# Altium footprint library RLC.PcbLib: 144 footprints (part 8 of 9)
Each footprint in its own frame and in the unit in brackets; x right, y up, seen from the top. Pads: shape width x height; smd on the part's side, far side on the other; paste and mask are expansions set on the pad; w line width, h text height; cw(c..) or ccw(c..) is an arc to the next point about the centre after c.
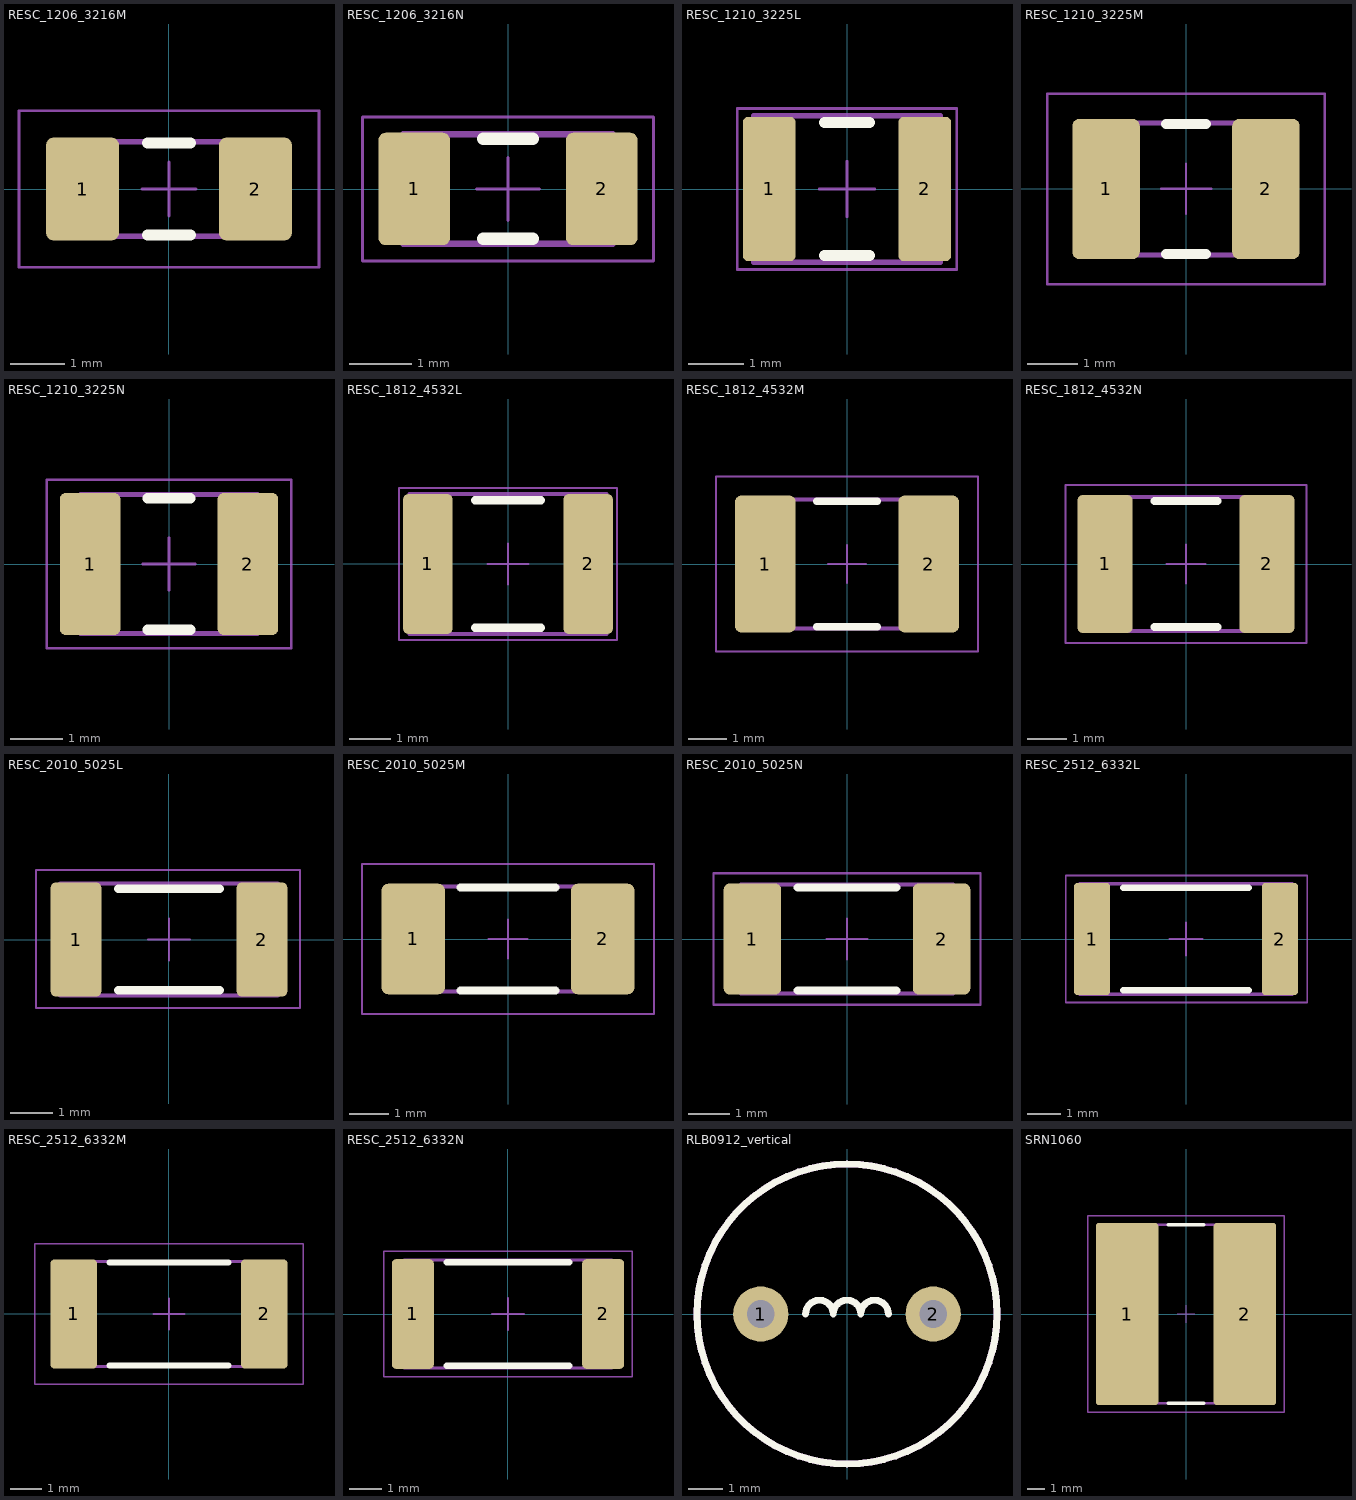
[diagram p7: the footprints below, top view; thin cyan lines are the x and y axes]

## RESC_1206_3216M [mm] "Chip Resistor, Body 3.2x1.6mm, IPC Low Density"
height 0.71
pads (2):
  rrect20% 1.35x1.9 smd: 1(-1.6,0) 2(1.6,0)
Top Overlay:
  lines w0.2: -0.4,-0.85 0.4,-0.85 ; -0.4,0.85 0.4,0.85
Top Designator:
  text ".Designator" at -2.899,1.5 h0.6
Top Assembly:
  lines w0.1: -1.675,-0.875 -1.675,0.875 1.675,0.875 1.675,-0.875 -1.675,-0.875
Top Courtyard:
  lines w0.05: -0.5,0 0.5,0 ; 0,-0.5 0,0.5 ; -2.775,-1.45 -2.775,1.45 2.775,1.45 2.775,-1.45 -2.775,-1.45
3D body "Resistor_1206_Text.step": height 0.62, standoff 0.01, extent -1.591,-0.788 1.609,0.812

## RESC_1206_3216N [mm] "Chip Resistor, Body 3.2x1.6mm, IPC Medium Density"
height 0.71
pads (2):
  rrect20% 1.15x1.8 smd: 1(-1.5,0) 2(1.5,0)
Top Overlay:
  lines w0.2: -0.4,-0.8 0.4,-0.8 ; -0.4,0.8 0.4,0.8
Top Designator:
  text ".Designator" at -2.899,1.5 h0.6
Top Assembly:
  lines w0.1: -1.675,-0.875 -1.675,0.875 1.675,0.875 1.675,-0.875 -1.675,-0.875
Top Courtyard:
  lines w0.05: -0.5,0 0.5,0 ; 0,-0.5 0,0.5 ; -2.325,-1.15 -2.325,1.15 2.325,1.15 2.325,-1.15 -2.325,-1.15
3D body "Resistor_1206_Text.step": height 0.62, standoff 0.01, extent -1.6,-0.8 1.6,0.8

## RESC_1210_3225L [mm] "Chip Resistor, Body 3.2x2.5mm, IPC High Density"
height 0.71
pads (2):
  rrect20% 0.95x2.6 smd: 1(-1.4,0) 2(1.4,0)
Top Overlay:
  lines w0.2: -0.4,-1.2 0.4,-1.2 ; -0.4,1.2 0.4,1.2
Top Designator:
  text ".Designator" at -2.999,1.8 h0.6
Top Assembly:
  lines w0.1: -1.675,-1.32 -1.675,1.32 1.675,1.32 1.675,-1.32 -1.675,-1.32
Top Courtyard:
  lines w0.05: -0.5,0 0.5,0 ; 0,-0.5 0,0.5 ; -1.975,-1.45 -1.975,1.45 1.975,1.45 1.975,-1.45 -1.975,-1.45
3D body "Resistor_1210_Text.step": height 0.62, standoff 0.01, extent -1.6,-1.25 1.6,1.25

## RESC_1210_3225M [mm] "Chip Resistor, Body 3.2x2.5mm, IPC Low Density"
height 0.71
pads (2):
  rrect20% 1.35x2.8 smd: 1(-1.6,0) 2(1.6,0)
Top Overlay:
  lines w0.2: -0.4,-1.3 0.4,-1.3 ; -0.4,1.3 0.4,1.3
Top Designator:
  text ".Designator" at -2.999,1.8 h0.6
Top Assembly:
  lines w0.1: -1.675,-1.32 -1.675,1.32 1.675,1.32 1.675,-1.32 -1.675,-1.32
Top Courtyard:
  lines w0.05: -0.5,0 0.5,0 ; 0,-0.5 0,0.5 ; -2.775,-1.9 -2.775,1.9 2.775,1.9 2.775,-1.9 -2.775,-1.9
3D body "Resistor_1210_Text.step": height 0.62, standoff 0.01, extent -1.6,-1.25 1.6,1.25

## RESC_1210_3225N [mm] "Chip Resistor, Body 3.2x2.5mm, IPC Medium Density"
height 0.71
pads (2):
  rrect20% 1.15x2.7 smd: 1(-1.5,0) 2(1.5,0)
Top Overlay:
  lines w0.2: -0.4,-1.25 0.4,-1.25 ; -0.4,1.25 0.4,1.25
Top Designator:
  text ".Designator" at -2.999,1.8 h0.6
Top Assembly:
  lines w0.1: -1.675,-1.32 -1.675,1.32 1.675,1.32 1.675,-1.32 -1.675,-1.32
Top Courtyard:
  lines w0.05: -0.5,0 0.5,0 ; 0,-0.5 0,0.5 ; -2.325,-1.6 -2.325,1.6 2.325,1.6 2.325,-1.6 -2.325,-1.6
3D body "Resistor_1210_Text.step": height 0.62, standoff 0.01, extent -1.592,-1.26 1.608,1.24

## RESC_1812_4532L [mm] "Chip Resistor, Body 4.5x3.2mm, IPC High Density"
height 0.71
pads (2):
  rrect20% 1.2x3.4 smd: 1(-1.95,0) 2(1.95,0)
Top Overlay:
  lines w0.2: -0.8,-1.55 0.8,-1.55 ; -0.8,1.55 0.8,1.55
Top Designator:
  text ".Designator" at -2.999,2.2 h0.6
Top Assembly:
  lines w0.1: -2.4,-1.7 2.4,-1.7 2.4,1.7 -2.4,1.7 -2.4,-1.7
Top Courtyard:
  lines w0.05: -0.5,0 0.5,0 ; 0,-0.5 0,0.5 ; -2.65,-1.85 2.65,-1.85 2.65,1.85 -2.65,1.85 -2.65,-1.85
3D body "rsmd-1812_l4-5_w3-2_h0-6.stp": height 0.6, standoff 0, extent -2.25,-1.6 2.25,1.6

## RESC_1812_4532M [mm] "Chip Resistor, Body 4.5x3.2mm, IPC Low Density"
height 0.71
pads (2):
  rrect20% 1.6x3.6 smd: 1(-2.15,0) 2(2.15,0)
Top Overlay:
  lines w0.2: -0.8,-1.65 0.8,-1.65 ; -0.8,1.65 0.8,1.65
Top Designator:
  text ".Designator" at -2.999,2.2 h0.6
Top Assembly:
  lines w0.1: -2.4,-1.7 2.4,-1.7 2.4,1.7 -2.4,1.7 -2.4,-1.7
Top Courtyard:
  lines w0.05: -0.5,0 0.5,0 ; 0,-0.5 0,0.5 ; -3.45,-2.3 3.45,-2.3 3.45,2.3 -3.45,2.3 -3.45,-2.3
3D body "rsmd-1812_l4-5_w3-2_h0-6.stp": height 0.6, standoff 0, extent -2.25,-1.6 2.25,1.6

## RESC_1812_4532N [mm] "Chip Resistor, Body 4.5x3.2mm, IPC Medium Density"
height 0.71
pads (2):
  rrect20% 1.4x3.5 smd: 1(-2.05,0) 2(2.05,0)
Top Overlay:
  lines w0.2: -0.8,-1.6 0.8,-1.6 ; -0.8,1.6 0.8,1.6
Top Designator:
  text ".Designator" at -2.999,2.2 h0.6
Top Assembly:
  lines w0.1: -2.4,-1.7 2.4,-1.7 2.4,1.7 -2.4,1.7 -2.4,-1.7
Top Courtyard:
  lines w0.05: -0.5,0 0.5,0 ; 0,-0.5 0,0.5 ; -3.05,-2 3.05,-2 3.05,2 -3.05,2 -3.05,-2
3D body "rsmd-1812_l4-5_w3-2_h0-6.stp": height 0.6, standoff 0, extent -2.175,-1.6 2.325,1.6

## RESC_2010_5025L [mm] "Chip Resistor, Body 5.0x2.5mm, IPC High Density"
height 0.71
pads (2):
  rrect20% 1.2x2.7 smd: 1(-2.2,0) 2(2.2,0)
Top Overlay:
  lines w0.2: -1.2,-1.2 1.2,-1.2 ; -1.2,1.2 1.2,1.2
Top Designator:
  text ".Designator" at -2.999,2.2 h0.6
Top Assembly:
  lines w0.1: -2.575,-1.325 2.575,-1.325 2.575,1.325 -2.575,1.325 -2.575,-1.325
Top Courtyard:
  lines w0.05: -0.5,0 0.5,0 ; 0,-0.5 0,0.5 ; -3.15,-1.625 3.1,-1.625 3.1,1.65 -3.15,1.65 -3.15,-1.625
3D body "Resistor_2010_Text.step": height 0.66, standoff 0.01, extent -2.5,-1.25 2.5,1.25

## RESC_2010_5025M [mm] "Chip Resistor, Body 5.0x2.5mm, IPC Low Density"
height 0.71
pads (2):
  rrect20% 1.6x2.8 smd: 1(-2.4,0) 2(2.4,0)
Top Overlay:
  lines w0.2: -1.2,-1.3 1.2,-1.3 ; -1.2,1.3 1.2,1.3
Top Designator:
  text ".Designator" at -2.999,2.2 h0.6
Top Assembly:
  lines w0.1: -2.575,-1.325 2.575,-1.325 2.575,1.325 -2.575,1.325 -2.575,-1.325
Top Courtyard:
  lines w0.05: -0.5,0 0.5,0 ; 0,-0.5 0,0.5 ; -3.7,-1.9 3.7,-1.9 3.7,1.9 -3.7,1.9 -3.7,-1.9
3D body "Resistor_2010_Text.step": height 0.66, standoff 0.01, extent -2.501,-1.239 2.499,1.261

## RESC_2010_5025N [mm] "Chip Resistor, Body 5.0x2.5mm, IPC Medium Density"
height 0.71
pads (2):
  rrect20% 1.4x2.7 smd: 1(-2.3,0) 2(2.3,0)
Top Overlay:
  lines w0.2: -1.2,-1.25 1.2,-1.25 ; -1.2,1.25 1.2,1.25
Top Designator:
  text ".Designator" at -2.999,2.2 h0.6
Top Assembly:
  lines w0.1: -2.575,-1.325 -2.575,1.325 2.575,1.325 2.575,-1.325 -2.575,-1.325
Top Courtyard:
  lines w0.05: -0.5,0 0.5,0 ; 0,-0.5 0,0.5 ; -3.25,-1.6 -3.25,1.6 3.25,1.6 3.25,-1.6 -3.25,-1.6
3D body "Resistor_2010_Text.step": height 0.66, standoff 0.01, extent -2.491,-1.249 2.509,1.251

## RESC_2512_6332L [mm] "Chip Resistor, Body 6.3x3.2mm, IPC High Density"
height 0.71
pads (2):
  rrect20% 1.1x3.4 smd: 1(-2.85,0) 2(2.85,0)
Top Overlay:
  lines w0.2: -1.9,-1.55 1.9,-1.55 ; -1.9,1.55 1.9,1.55
Top Designator:
  text ".Designator" at -2.999,2.2 h0.6
Top Assembly:
  lines w0.1: -3.225,-1.675 -3.225,1.675 3.225,1.675 3.225,-1.675 -3.225,-1.675
Top Courtyard:
  lines w0.05: -0.5,0 0.5,0 ; 0,-0.5 0,0.5 ; -3.65,-1.925 -3.65,1.925 3.675,1.925 3.675,-1.925 -3.65,-1.925
3D body "Resistor_2512_Text.step": height 0.66, standoff 0.01, extent -3.15,-1.6 3.15,1.6

## RESC_2512_6332M [mm] "Chip Resistor, Body 6.3x3.2mm, IPC Low Density"
height 0.71
pads (2):
  rrect20% 1.5x3.5 smd: 1(-3.05,0) 2(3.05,0)
Top Overlay:
  lines w0.2: -1.9,-1.65 1.9,-1.65 ; -1.9,1.65 1.9,1.65
Top Designator:
  text ".Designator" at -2.999,2.2 h0.6
Top Assembly:
  lines w0.1: -3.225,-1.675 -3.225,1.675 3.225,1.675 3.225,-1.675 -3.225,-1.675
Top Courtyard:
  lines w0.05: -0.5,0 0.5,0 ; 0,-0.5 0,0.5 ; -4.3,-2.25 -4.3,2.25 4.3,2.25 4.3,-2.25 -4.3,-2.25
3D body "Resistor_2512_Text.step": height 0.66, standoff 0.01, extent -3.138,-1.6 3.162,1.6

## RESC_2512_6332N [mm] "Chip Resistor, Body 6.3x3.2mm, IPC Medium Density"
height 0.71
pads (2):
  rrect20% 1.3x3.4 smd: 1(-2.95,0) 2(2.95,0)
Top Overlay:
  lines w0.2: -1.9,-1.6 1.9,-1.6 ; -1.9,1.6 1.9,1.6
Top Designator:
  text ".Designator" at -2.999,2.2 h0.6
Top Assembly:
  lines w0.1: -3.225,-1.675 3.225,-1.675 3.225,1.675 -3.225,1.675 -3.225,-1.675
Top Courtyard:
  lines w0.05: -0.5,0 0.5,0 ; 0,-0.5 0,0.5 ; -3.85,-1.95 3.85,-1.95 3.85,1.95 -3.85,1.95 -3.85,-1.95
3D body "Resistor_2512_Text.step": height 0.66, standoff 0.01, extent -3.142,-1.596 3.158,1.604

## RLB0912_vertical [mm]
pads (2):
  round 1.6 hole 0.8: 1(-2.5,0) 2(2.5,0)
Top Overlay:
  circle w0.2: c0,0 r4.35
  lines w0.2: -1.2,0 cw(c-0.8,0) -0.4,0 cw(c0,0) 0.4,0 cw(c0.8,0) 1.2,0
Bottom Dimensions:
  circle w0.2: c0,0 r4.35
  text ".Designator" at -1.8,4.7 h1
Top Courtyard:
  circle w0.2: c0,0 r4.35
3D body "RLB0912_vertical.stp": height 10, standoff -3, extent -4.35,-4.347 4.35,4.347

## SRN1060 [mm] "Bourns SRN1060 Series Shielded Wire-wound SMD Inductor with a Ferrite Core"
pads (2):
  rrect10% 3.5x10.2 smd: 1(-3.3,0) 2(3.3,0)
Top Overlay:
  lines w0.2: -1,-5 1,-5 ; -1,5 1,5
Top Designator:
  text ".Designator" at -2.999,6.05 h0.6
Top Assembly:
  lines w0.15: -4.9,-5 -4.9,5 4.9,5 4.9,-5 -4.9,-5
Top Courtyard:
  lines w0.05: -0.5,0 0.5,0 ; 0,-0.5 0,0.5
  lines w0.1: -5.5,-5.5 -5.5,5.5 5.5,5.5 5.5,-5.5 -5.5,-5.5
3D body "SRN1060-100M.stp": height 6.1, standoff 0.1, extent -4.9,-5 4.9,5